# Altium integrated library 1986975-2.IntLib: 1 symbol
Pins are listed as number, name and electrical type; pins without a type are passive.

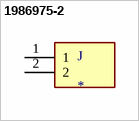
[diagram p0: symbol 1986975-2]

## 1986975-2
designator J
Plug 2P TB,3.81,PCB MNT,ST MOD 2 POS; MP: 1986975-2; MF: TE Connectivity; Value: *; TE_purchase_URL: https://www.te.com/usa-en/product-1986975-2.html?te_bu=Cor&te_type=disp&te_campaign=seda_glo_cor-seda-global-disp-prtnr-fy19-seda-model-bom-cta_sma-317_1&elqCampaignId=32493; Availability: Unavailable; Price: None; Package: None; SnapEDA_Link: https://www.snapeda.com/parts/1986975-2/TE%20Connectivity/view-part/3099261/?ref=snap
footprint TE_1986975-2
pins: 1, 2